# Altium schematic symbol library Regulator_Switching.SchLib: 1279 symbols (part 10 of 14)
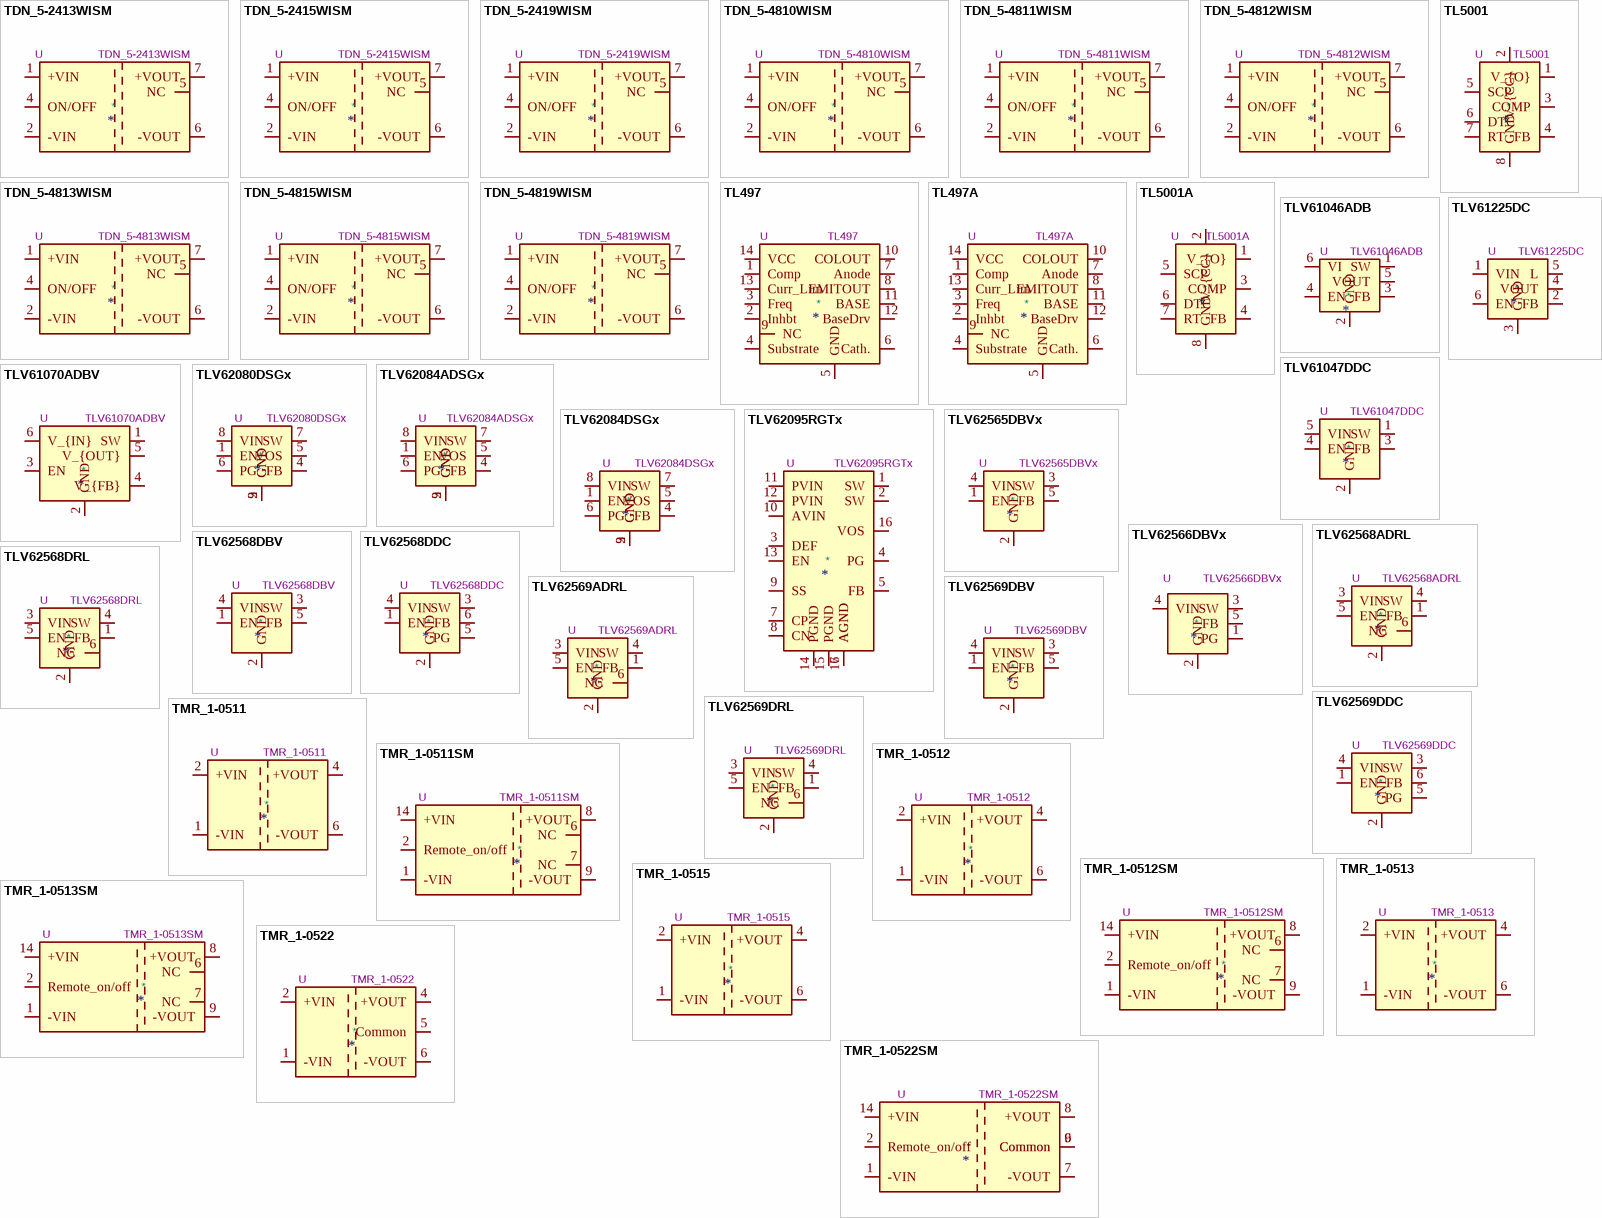
[diagram p41: symbols TDN_5-2413WISM to TMR_1-0522SM]

## TLV62084DSGx
designator *  value TLV62084DSGx  Reference: U
High-efficiency Step-down Converter; ki_keywords: Synchronous Buck; ki_fp_filters: *WSON?8?1EP*2x2mm*P0.5mm*; Footprint: Package_SON:WSON-8-1EP_2x2mm_P0.5mm_EP0.9x1.6mm; Datasheet: http://www.ti.com/lit/ds/symlink/tlv62080.pdf; Description_: High-efficiency Step-down Converter
pins: 1 EN, 2 GND, 3 GND, 4 FB, 5 VOS, 6 PG, 7 SW, 8 VIN, 9 GND

## TLV62095RGTx
designator *  value TLV62095RGTx  Reference: U
High efficiency step-down converter; ki_keywords: Synchronous Buck; ki_fp_filters: VQFN*1EP*3x3mm*P0.5mm*; Footprint: Package_DFN_QFN:VQFN-16-1EP_3x3mm_P0.5mm_EP1.68x1.68mm_ThermalVias; Datasheet: http://www.ti.com/lit/ds/symlink/tlv62095.pdf; Description_: High efficiency step-down converter
pins: 1 SW, 2 SW, 3 DEF, 4 PG, 5 FB, 6 AGND, 7 CP, 8 CN, 9 SS, 10 AVIN, 11 PVIN, 12 PVIN, 13 EN, 14 PGND, 15 PGND, 16 VOS, 17 AGND

## TLV62565DBVx
designator *  value TLV62565DBVx  Reference: U
2.7-V to 5.5-V input, EN Input, 1.5-A  step-down converter, SOT-23-5; ki_keywords: high efficiency; ki_fp_filters: SOT?23*; Footprint: Package_TO_SOT_SMD:SOT-23-5; Datasheet: https://www.ti.com/lit/ds/symlink/tlv62565.pdf; Description_: 2.7-V to 5.5-V input, EN Input, 1.5-A  step-down converter, SOT-23-5
pins: 1 EN, 2 GND, 3 SW, 4 VIN, 5 FB

## TLV62566DBVx
designator *  value TLV62566DBVx  Reference: U
2.7-V to 5.5-V input, PG Output, 1.5-A high efficiency step-down converter, SOT-23-5; ki_fp_filters: SOT?23*; Footprint: Package_TO_SOT_SMD:SOT-23-5; Datasheet: https://www.ti.com/lit/ds/symlink/tlv62565.pdf; Description_: 2.7-V to 5.5-V input, PG Output, 1.5-A high efficiency step-down converter, SOT-23-5; ki_keywords: step-down converter
pins: 1 PG, 2 GND, 3 SW, 4 VIN, 5 FB

## TLV62568ADRL
designator *  value TLV62568ADRL  Reference: U
High Efficiency Synchronous Buck Converter with forced PWM, Adjustable Output 0.6V-5.5V, 1A, SOT-563-6; ki_keywords: Step-Down Buck DC-DC Regulator Adjustable; ki_fp_filters: SOT*563*; Footprint: Package_TO_SOT_SMD:SOT-563; Datasheet: https://www.ti.com/lit/gpn/tlv62568a; Description_: High Efficiency Synchronous Buck Converter with forced PWM, Adjustable Output 0.6V-5.5V, 1A, SOT-563-6
pins: 1 FB, 2 GND, 3 VIN, 4 SW, 5 EN, 6 NC

## TLV62568DBV
designator *  value TLV62568DBV  Reference: U
High Efficiency Synchronous Buck Converter, Adjustable Output 0.6V-5.5V, 1A, SOT-23-5; ki_keywords: Step-Down Buck DC-DC Regulator Adjustable; ki_fp_filters: SOT?23*; Footprint: Package_TO_SOT_SMD:SOT-23-5; Datasheet: http://www.ti.com/lit/ds/symlink/tlv62568.pdf; Description_: High Efficiency Synchronous Buck Converter, Adjustable Output 0.6V-5.5V, 1A, SOT-23-5
pins: 1 EN, 2 GND, 3 SW, 4 VIN, 5 FB

## TLV62568DDC
designator *  value TLV62568DDC  Reference: U
High Efficiency Synchronous Buck Converter, Adjustable Output 0.6V-5.5V, 1A, SOT-23-6; ki_keywords: Step-Down Buck DC-DC Regulator Adjustable; ki_fp_filters: SOT?23*; Footprint: Package_TO_SOT_SMD:SOT-23-6; Datasheet: http://www.ti.com/lit/ds/symlink/tlv62568.pdf; Description_: High Efficiency Synchronous Buck Converter, Adjustable Output 0.6V-5.5V, 1A, SOT-23-6
pins: 1 EN, 2 GND, 3 SW, 4 VIN, 5 PG, 6 FB

## TLV62568DRL
designator *  value TLV62568DRL  Reference: U
High Efficiency Synchronous Buck Converter, Adjustable Output 0.6V-5.5V, 1A, SOT-563-6; ki_keywords: Step-Down Buck DC-DC Regulator Adjustable; ki_fp_filters: SOT*563*; Footprint: Package_TO_SOT_SMD:SOT-563; Datasheet: http://www.ti.com/lit/ds/symlink/tlv62568.pdf; Description_: High Efficiency Synchronous Buck Converter, Adjustable Output 0.6V-5.5V, 1A, SOT-563-6
pins: 1 FB, 2 GND, 3 VIN, 4 SW, 5 EN, 6 NC

## TLV62569ADRL
designator *  value TLV62569ADRL  Reference: U
High Efficiency Synchronous Buck Converter with forced PWM, Adjustable Output 0.6V-5.5V, 2A, SOT-563-6; ki_keywords: Step-Down Buck DC-DC Regulator Adjustable; ki_fp_filters: SOT*563*; Footprint: Package_TO_SOT_SMD:SOT-563; Datasheet: https://www.ti.com/lit/gpn/tlv62569a; Description_: High Efficiency Synchronous Buck Converter with forced PWM, Adjustable Output 0.6V-5.5V, 2A, SOT-563-6
pins: 1 FB, 2 GND, 3 VIN, 4 SW, 5 EN, 6 NC

## TLV62569DBV
designator *  value TLV62569DBV  Reference: U
High Efficiency Synchronous Buck Converter, Adjustable Output 0.6V-5.5V, 2A, SOT-23-5; ki_keywords: Step-Down Buck DC-DC Regulator Adjustable; ki_fp_filters: SOT?23*; Footprint: Package_TO_SOT_SMD:SOT-23-5; Datasheet: http://www.ti.com/lit/ds/symlink/tlv62569.pdf; Description_: High Efficiency Synchronous Buck Converter, Adjustable Output 0.6V-5.5V, 2A, SOT-23-5
pins: 1 EN, 2 GND, 3 SW, 4 VIN, 5 FB

## TLV62569DDC
designator *  value TLV62569DDC  Reference: U
High Efficiency Synchronous Buck Converter, Adjustable Output 0.6V-5.5V, 2A, SOT-23-6; ki_keywords: Step-Down Buck DC-DC Regulator Adjustable; ki_fp_filters: SOT?23*; Footprint: Package_TO_SOT_SMD:SOT-23-6; Datasheet: http://www.ti.com/lit/ds/symlink/tlv62569.pdf; Description_: High Efficiency Synchronous Buck Converter, Adjustable Output 0.6V-5.5V, 2A, SOT-23-6
pins: 1 EN, 2 GND, 3 SW, 4 VIN, 5 PG, 6 FB

## TLV62569DRL
designator *  value TLV62569DRL  Reference: U
High Efficiency Synchronous Buck Converter, Adjustable Output 0.6V-5.5V, 2A, SOT-563-6; ki_keywords: Step-Down Buck DC-DC Regulator Adjustable; ki_fp_filters: SOT*563*; Footprint: Package_TO_SOT_SMD:SOT-563; Datasheet: http://www.ti.com/lit/ds/symlink/tlv62569.pdf; Description_: High Efficiency Synchronous Buck Converter, Adjustable Output 0.6V-5.5V, 2A, SOT-563-6
pins: 1 FB, 2 GND, 3 VIN, 4 SW, 5 EN, 6 NC

## TMR_1-0511
designator *  value TMR_1-0511  Reference: U
200mA Regulated 1W DC/DC converter with 1.5kV isolation, 4.5V-9V input, 5V fixed Output Voltage, SIP-6; ki_keywords: Murata isolated isolation dc-dc converter transformer; ki_fp_filters: Converter*DCDC*TRACO*TMR?1*Single*; Footprint: Converter_DCDC:Converter_DCDC_TRACO_TMR-1-xxxx_Single_THT; Datasheet: http://assets.tracopower.com/TMR1/documents/tmr1-datasheet.pdf; Description_: 200mA Regulated 1W DC/DC converter with 1.5kV isolation, 4.5V-9V input, 5V fixed Output Voltage, SIP-6
pins: 1 -VIN, 2 +VIN, 4 +VOUT, 6 -VOUT

## TMR_1-0511SM
designator *  value TMR_1-0511SM  Reference: U
200mA Regulated 1W DC/DC converter with 1.5kV isolation, 4.5V-9V input, 5V fixed Output Voltage, SMD; ki_keywords: Murata isolated isolation dc-dc converter transformer; ki_fp_filters: Converter*DCDC*TRACO*TMR?1SM*; Footprint: Converter_DCDC:Converter_DCDC_TRACO_TMR-1SM_SMD; Datasheet: http://assets.tracopower.com/TMR1SM/documents/tmr1sm-datasheet.pdf; Description_: 200mA Regulated 1W DC/DC converter with 1.5kV isolation, 4.5V-9V input, 5V fixed Output Voltage, SMD
pins: 1 -VIN, 2 Remote_on/off, 6 NC, 7 NC, 8 +VOUT, 9 -VOUT, 14 +VIN

## TMR_1-0512
designator *  value TMR_1-0512  Reference: U
83mA Regulated 1W DC/DC converter with 1.5kV isolation, 4.5V-9V input, 12V fixed Output Voltage, SIP-6; ki_keywords: Murata isolated isolation dc-dc converter transformer; ki_fp_filters: Converter*DCDC*TRACO*TMR?1*Single*; Footprint: Converter_DCDC:Converter_DCDC_TRACO_TMR-1-xxxx_Single_THT; Datasheet: http://assets.tracopower.com/TMR1/documents/tmr1-datasheet.pdf; Description_: 83mA Regulated 1W DC/DC converter with 1.5kV isolation, 4.5V-9V input, 12V fixed Output Voltage, SIP-6
pins: 1 -VIN, 2 +VIN, 4 +VOUT, 6 -VOUT

## TMR_1-0512SM
designator *  value TMR_1-0512SM  Reference: U
83mA Regulated 1W DC/DC converter with 1.5kV isolation, 4.5V-9V input, 12V fixed Output Voltage, SMD; ki_keywords: Murata isolated isolation dc-dc converter transformer; ki_fp_filters: Converter*DCDC*TRACO*TMR?1SM*; Footprint: Converter_DCDC:Converter_DCDC_TRACO_TMR-1SM_SMD; Datasheet: http://assets.tracopower.com/TMR1SM/documents/tmr1sm-datasheet.pdf; Description_: 83mA Regulated 1W DC/DC converter with 1.5kV isolation, 4.5V-9V input, 12V fixed Output Voltage, SMD
pins: 1 -VIN, 2 Remote_on/off, 6 NC, 7 NC, 8 +VOUT, 9 -VOUT, 14 +VIN

## TMR_1-0513
designator *  value TMR_1-0513  Reference: U
67mA Regulated 1W DC/DC converter with 1.5kV isolation, 4.5V-9V input, 15V fixed Output Voltage, SIP-6; ki_keywords: Murata isolated isolation dc-dc converter transformer; ki_fp_filters: Converter*DCDC*TRACO*TMR?1*Single*; Footprint: Converter_DCDC:Converter_DCDC_TRACO_TMR-1-xxxx_Single_THT; Datasheet: http://assets.tracopower.com/TMR1/documents/tmr1-datasheet.pdf; Description_: 67mA Regulated 1W DC/DC converter with 1.5kV isolation, 4.5V-9V input, 15V fixed Output Voltage, SIP-6
pins: 1 -VIN, 2 +VIN, 4 +VOUT, 6 -VOUT

## TMR_1-0513SM
designator *  value TMR_1-0513SM  Reference: U
67mA Regulated 1W DC/DC converter with 1.5kV isolation, 4.5V-9V input, 15V fixed Output Voltage, SMD; ki_keywords: Murata isolated isolation dc-dc converter transformer; ki_fp_filters: Converter*DCDC*TRACO*TMR?1SM*; Footprint: Converter_DCDC:Converter_DCDC_TRACO_TMR-1SM_SMD; Datasheet: http://assets.tracopower.com/TMR1SM/documents/tmr1sm-datasheet.pdf; Description_: 67mA Regulated 1W DC/DC converter with 1.5kV isolation, 4.5V-9V input, 15V fixed Output Voltage, SMD
pins: 1 -VIN, 2 Remote_on/off, 6 NC, 7 NC, 8 +VOUT, 9 -VOUT, 14 +VIN

## TMR_1-0515
designator *  value TMR_1-0515  Reference: U
42mA Regulated 1W DC/DC converter with 1.5kV isolation, 4.5V-9V input, 24V fixed Output Voltage, SIP-6; ki_keywords: Murata isolated isolation dc-dc converter transformer; ki_fp_filters: Converter*DCDC*TRACO*TMR?1*Single*; Footprint: Converter_DCDC:Converter_DCDC_TRACO_TMR-1-xxxx_Single_THT; Datasheet: http://assets.tracopower.com/TMR1/documents/tmr1-datasheet.pdf; Description_: 42mA Regulated 1W DC/DC converter with 1.5kV isolation, 4.5V-9V input, 24V fixed Output Voltage, SIP-6
pins: 1 -VIN, 2 +VIN, 4 +VOUT, 6 -VOUT

## TMR_1-0522
designator *  value TMR_1-0522  Reference: U
±42mA Regulated 1W DC/DC converter with 1.5kV isolation, 4.5V-9V input, ±12V fixed Output Voltage, SIP-6; ki_keywords: Murata isolated isolation dc-dc converter transformer; ki_fp_filters: Converter*DCDC*TRACO*TMR?1*Dual*; Footprint: Converter_DCDC:Converter_DCDC_TRACO_TMR-1-xxxx_Dual_THT; Datasheet: http://assets.tracopower.com/TMR1/documents/tmr1-datasheet.pdf; Description_: ±42mA Regulated 1W DC/DC converter with 1.5kV isolation, 4.5V-9V input, ±12V fixed Output Voltage, SIP-6
pins: 1 -VIN, 2 +VIN, 4 +VOUT, 5 Common, 6 -VOUT

## TMR_1-0522SM
designator *  value TMR_1-0522SM  Reference: U
±42mA Regulated 1W DC/DC converter with 1.5kV isolation, 4.5V-9V input, ±12V fixed Output Voltage, SMD; ki_keywords: Murata isolated isolation dc-dc converter transformer; ki_fp_filters: Converter*DCDC*TRACO*TMR-1SM*SMD*; Footprint: Converter_DCDC:Converter_DCDC_TRACO_TMR-1SM_SMD; Datasheet: http://assets.tracopower.com/TMR1SM/documents/tmr1sm-datasheet.pdf; Description_: ±42mA Regulated 1W DC/DC converter with 1.5kV isolation, 4.5V-9V input, ±12V fixed Output Voltage, SMD
pins: 1 -VIN, 2 Remote_on/off, 6 Common, 7 -VOUT, 8 +VOUT, 9 Common, 14 +VIN

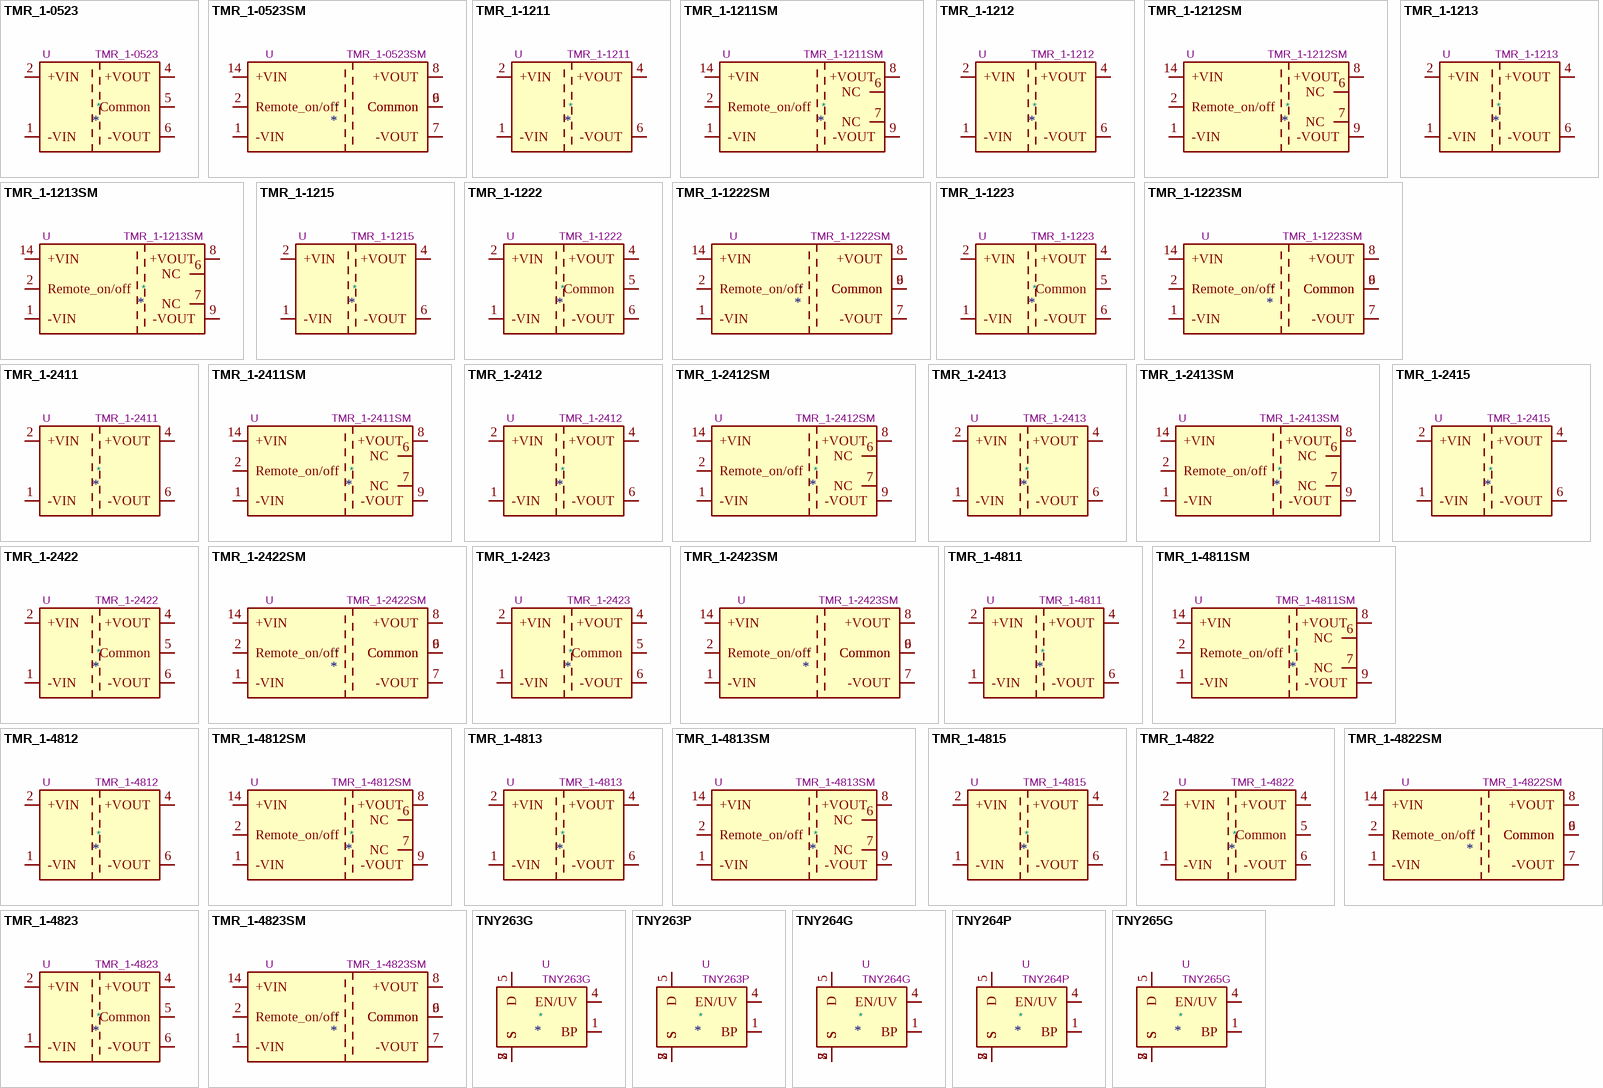
[diagram p22: symbols TMR_1-0523 to TNY265G]

## TMR_1-0523
designator *  value TMR_1-0523  Reference: U
±33mA Regulated 1W DC/DC converter with 1.5kV isolation, 4.5V-9V input, ±15V fixed Output Voltage, SIP-6; ki_keywords: Murata isolated isolation dc-dc converter transformer; ki_fp_filters: Converter*DCDC*TRACO*TMR?1*Dual*; Footprint: Converter_DCDC:Converter_DCDC_TRACO_TMR-1-xxxx_Dual_THT; Datasheet: http://assets.tracopower.com/TMR1/documents/tmr1-datasheet.pdf; Description_: ±33mA Regulated 1W DC/DC converter with 1.5kV isolation, 4.5V-9V input, ±15V fixed Output Voltage, SIP-6
pins: 1 -VIN, 2 +VIN, 4 +VOUT, 5 Common, 6 -VOUT

## TMR_1-0523SM
designator *  value TMR_1-0523SM  Reference: U
±33mA Regulated 1W DC/DC converter with 1.5kV isolation, 4.5V-9V input, ±15V fixed Output Voltage, SMD; ki_keywords: Murata isolated isolation dc-dc converter transformer; ki_fp_filters: Converter*DCDC*TRACO*TMR-1SM*SMD*; Footprint: Converter_DCDC:Converter_DCDC_TRACO_TMR-1SM_SMD; Datasheet: http://assets.tracopower.com/TMR1SM/documents/tmr1sm-datasheet.pdf; Description_: ±33mA Regulated 1W DC/DC converter with 1.5kV isolation, 4.5V-9V input, ±15V fixed Output Voltage, SMD
pins: 1 -VIN, 2 Remote_on/off, 6 Common, 7 -VOUT, 8 +VOUT, 9 Common, 14 +VIN

## TMR_1-1211
designator *  value TMR_1-1211  Reference: U
200mA Regulated 1W DC/DC converter with 1.5kV isolation, 9V-18V input, 5V fixed Output Voltage, SIP-6; ki_keywords: Murata isolated isolation dc-dc converter transformer; ki_fp_filters: Converter*DCDC*TRACO*TMR?1*Single*; Footprint: Converter_DCDC:Converter_DCDC_TRACO_TMR-1-xxxx_Single_THT; Datasheet: http://assets.tracopower.com/TMR1/documents/tmr1-datasheet.pdf; Description_: 200mA Regulated 1W DC/DC converter with 1.5kV isolation, 9V-18V input, 5V fixed Output Voltage, SIP-6
pins: 1 -VIN, 2 +VIN, 4 +VOUT, 6 -VOUT

## TMR_1-1211SM
designator *  value TMR_1-1211SM  Reference: U
200mA Regulated 1W DC/DC converter with 1.5kV isolation, 9V-18V input, 5V fixed Output Voltage, SMD; ki_keywords: Murata isolated isolation dc-dc converter transformer; ki_fp_filters: Converter*DCDC*TRACO*TMR?1SM*; Footprint: Converter_DCDC:Converter_DCDC_TRACO_TMR-1SM_SMD; Datasheet: http://assets.tracopower.com/TMR1SM/documents/tmr1sm-datasheet.pdf; Description_: 200mA Regulated 1W DC/DC converter with 1.5kV isolation, 9V-18V input, 5V fixed Output Voltage, SMD
pins: 1 -VIN, 2 Remote_on/off, 6 NC, 7 NC, 8 +VOUT, 9 -VOUT, 14 +VIN

## TMR_1-1212
designator *  value TMR_1-1212  Reference: U
83mA Regulated 1W DC/DC converter with 1.5kV isolation, 9V-18V input, 12V fixed Output Voltage, SIP-6; ki_keywords: Murata isolated isolation dc-dc converter transformer; ki_fp_filters: Converter*DCDC*TRACO*TMR?1*Single*; Footprint: Converter_DCDC:Converter_DCDC_TRACO_TMR-1-xxxx_Single_THT; Datasheet: http://assets.tracopower.com/TMR1/documents/tmr1-datasheet.pdf; Description_: 83mA Regulated 1W DC/DC converter with 1.5kV isolation, 9V-18V input, 12V fixed Output Voltage, SIP-6
pins: 1 -VIN, 2 +VIN, 4 +VOUT, 6 -VOUT

## TMR_1-1212SM
designator *  value TMR_1-1212SM  Reference: U
83mA Regulated 1W DC/DC converter with 1.5kV isolation, 9V-18V input, 12V fixed Output Voltage, SMD; ki_keywords: Murata isolated isolation dc-dc converter transformer; ki_fp_filters: Converter*DCDC*TRACO*TMR?1SM*; Footprint: Converter_DCDC:Converter_DCDC_TRACO_TMR-1SM_SMD; Datasheet: http://assets.tracopower.com/TMR1SM/documents/tmr1sm-datasheet.pdf; Description_: 83mA Regulated 1W DC/DC converter with 1.5kV isolation, 9V-18V input, 12V fixed Output Voltage, SMD
pins: 1 -VIN, 2 Remote_on/off, 6 NC, 7 NC, 8 +VOUT, 9 -VOUT, 14 +VIN

## TMR_1-1213
designator *  value TMR_1-1213  Reference: U
67mA Regulated 1W DC/DC converter with 1.5kV isolation, 9V-18V input, 15V fixed Output Voltage, SIP-6; ki_keywords: Murata isolated isolation dc-dc converter transformer; ki_fp_filters: Converter*DCDC*TRACO*TMR?1*Single*; Footprint: Converter_DCDC:Converter_DCDC_TRACO_TMR-1-xxxx_Single_THT; Datasheet: http://assets.tracopower.com/TMR1/documents/tmr1-datasheet.pdf; Description_: 67mA Regulated 1W DC/DC converter with 1.5kV isolation, 9V-18V input, 15V fixed Output Voltage, SIP-6
pins: 1 -VIN, 2 +VIN, 4 +VOUT, 6 -VOUT

## TMR_1-1213SM
designator *  value TMR_1-1213SM  Reference: U
67mA Regulated 1W DC/DC converter with 1.5kV isolation, 9V-18V input, 15V fixed Output Voltage, SMD; ki_keywords: Murata isolated isolation dc-dc converter transformer; ki_fp_filters: Converter*DCDC*TRACO*TMR?1SM*; Footprint: Converter_DCDC:Converter_DCDC_TRACO_TMR-1SM_SMD; Datasheet: http://assets.tracopower.com/TMR1SM/documents/tmr1sm-datasheet.pdf; Description_: 67mA Regulated 1W DC/DC converter with 1.5kV isolation, 9V-18V input, 15V fixed Output Voltage, SMD
pins: 1 -VIN, 2 Remote_on/off, 6 NC, 7 NC, 8 +VOUT, 9 -VOUT, 14 +VIN

## TMR_1-1215
designator *  value TMR_1-1215  Reference: U
42mA Regulated 1W DC/DC converter with 1.5kV isolation, 9V-18V input, 24V fixed Output Voltage, SIP-6; ki_keywords: Murata isolated isolation dc-dc converter transformer; ki_fp_filters: Converter*DCDC*TRACO*TMR?1*Single*; Footprint: Converter_DCDC:Converter_DCDC_TRACO_TMR-1-xxxx_Single_THT; Datasheet: http://assets.tracopower.com/TMR1/documents/tmr1-datasheet.pdf; Description_: 42mA Regulated 1W DC/DC converter with 1.5kV isolation, 9V-18V input, 24V fixed Output Voltage, SIP-6
pins: 1 -VIN, 2 +VIN, 4 +VOUT, 6 -VOUT

## TMR_1-1222
designator *  value TMR_1-1222  Reference: U
±42mA Regulated 1W DC/DC converter with 1.5kV isolation, 9V-18V input, ±12V fixed Output Voltage, SIP-6; ki_keywords: Murata isolated isolation dc-dc converter transformer; ki_fp_filters: Converter*DCDC*TRACO*TMR?1*Dual*; Footprint: Converter_DCDC:Converter_DCDC_TRACO_TMR-1-xxxx_Dual_THT; Datasheet: http://assets.tracopower.com/TMR1/documents/tmr1-datasheet.pdf; Description_: ±42mA Regulated 1W DC/DC converter with 1.5kV isolation, 9V-18V input, ±12V fixed Output Voltage, SIP-6
pins: 1 -VIN, 2 +VIN, 4 +VOUT, 5 Common, 6 -VOUT

## TMR_1-1222SM
designator *  value TMR_1-1222SM  Reference: U
±42mA Regulated 1W DC/DC converter with 1.5kV isolation, 9V-18V input, ±12V fixed Output Voltage, SMD; ki_keywords: Murata isolated isolation dc-dc converter transformer; ki_fp_filters: Converter*DCDC*TRACO*TMR-1SM*SMD*; Footprint: Converter_DCDC:Converter_DCDC_TRACO_TMR-1SM_SMD; Datasheet: http://assets.tracopower.com/TMR1SM/documents/tmr1sm-datasheet.pdf; Description_: ±42mA Regulated 1W DC/DC converter with 1.5kV isolation, 9V-18V input, ±12V fixed Output Voltage, SMD
pins: 1 -VIN, 2 Remote_on/off, 6 Common, 7 -VOUT, 8 +VOUT, 9 Common, 14 +VIN

## TMR_1-1223
designator *  value TMR_1-1223  Reference: U
±33mA Regulated 1W DC/DC converter with 1.5kV isolation, 9V-18V input, ±15V fixed Output Voltage, SIP-6; ki_keywords: Murata isolated isolation dc-dc converter transformer; ki_fp_filters: Converter*DCDC*TRACO*TMR?1*Dual*; Footprint: Converter_DCDC:Converter_DCDC_TRACO_TMR-1-xxxx_Dual_THT; Datasheet: http://assets.tracopower.com/TMR1/documents/tmr1-datasheet.pdf; Description_: ±33mA Regulated 1W DC/DC converter with 1.5kV isolation, 9V-18V input, ±15V fixed Output Voltage, SIP-6
pins: 1 -VIN, 2 +VIN, 4 +VOUT, 5 Common, 6 -VOUT

## TMR_1-1223SM
designator *  value TMR_1-1223SM  Reference: U
±33mA Regulated 1W DC/DC converter with 1.5kV isolation, 9V-18V input, ±15V fixed Output Voltage, SMD; ki_keywords: Murata isolated isolation dc-dc converter transformer; ki_fp_filters: Converter*DCDC*TRACO*TMR-1SM*SMD*; Footprint: Converter_DCDC:Converter_DCDC_TRACO_TMR-1SM_SMD; Datasheet: http://assets.tracopower.com/TMR1SM/documents/tmr1sm-datasheet.pdf; Description_: ±33mA Regulated 1W DC/DC converter with 1.5kV isolation, 9V-18V input, ±15V fixed Output Voltage, SMD
pins: 1 -VIN, 2 Remote_on/off, 6 Common, 7 -VOUT, 8 +VOUT, 9 Common, 14 +VIN

## TMR_1-2411
designator *  value TMR_1-2411  Reference: U
200mA Regulated 1W DC/DC converter with 1.5kV isolation, 18V-36V input, 5V fixed Output Voltage, SIP-6; ki_keywords: Murata isolated isolation dc-dc converter transformer; ki_fp_filters: Converter*DCDC*TRACO*TMR?1*Single*; Footprint: Converter_DCDC:Converter_DCDC_TRACO_TMR-1-xxxx_Single_THT; Datasheet: http://assets.tracopower.com/TMR1/documents/tmr1-datasheet.pdf; Description_: 200mA Regulated 1W DC/DC converter with 1.5kV isolation, 18V-36V input, 5V fixed Output Voltage, SIP-6
pins: 1 -VIN, 2 +VIN, 4 +VOUT, 6 -VOUT

## TMR_1-2411SM
designator *  value TMR_1-2411SM  Reference: U
200mA Regulated 1W DC/DC converter with 1.5kV isolation, 18V-36V input, 5V fixed Output Voltage, SMD; ki_keywords: Murata isolated isolation dc-dc converter transformer; ki_fp_filters: Converter*DCDC*TRACO*TMR?1SM*; Footprint: Converter_DCDC:Converter_DCDC_TRACO_TMR-1SM_SMD; Datasheet: http://assets.tracopower.com/TMR1SM/documents/tmr1sm-datasheet.pdf; Description_: 200mA Regulated 1W DC/DC converter with 1.5kV isolation, 18V-36V input, 5V fixed Output Voltage, SMD
pins: 1 -VIN, 2 Remote_on/off, 6 NC, 7 NC, 8 +VOUT, 9 -VOUT, 14 +VIN

## TMR_1-2412
designator *  value TMR_1-2412  Reference: U
83mA Regulated 1W DC/DC converter with 1.5kV isolation, 18V-36V input, 12V fixed Output Voltage, SIP-6; ki_keywords: Murata isolated isolation dc-dc converter transformer; ki_fp_filters: Converter*DCDC*TRACO*TMR?1*Single*; Footprint: Converter_DCDC:Converter_DCDC_TRACO_TMR-1-xxxx_Single_THT; Datasheet: http://assets.tracopower.com/TMR1/documents/tmr1-datasheet.pdf; Description_: 83mA Regulated 1W DC/DC converter with 1.5kV isolation, 18V-36V input, 12V fixed Output Voltage, SIP-6
pins: 1 -VIN, 2 +VIN, 4 +VOUT, 6 -VOUT

## TMR_1-2412SM
designator *  value TMR_1-2412SM  Reference: U
83mA Regulated 1W DC/DC converter with 1.5kV isolation, 18V-36V input, 12V fixed Output Voltage, SMD; ki_keywords: Murata isolated isolation dc-dc converter transformer; ki_fp_filters: Converter*DCDC*TRACO*TMR?1SM*; Footprint: Converter_DCDC:Converter_DCDC_TRACO_TMR-1SM_SMD; Datasheet: http://assets.tracopower.com/TMR1SM/documents/tmr1sm-datasheet.pdf; Description_: 83mA Regulated 1W DC/DC converter with 1.5kV isolation, 18V-36V input, 12V fixed Output Voltage, SMD
pins: 1 -VIN, 2 Remote_on/off, 6 NC, 7 NC, 8 +VOUT, 9 -VOUT, 14 +VIN

## TMR_1-2413
designator *  value TMR_1-2413  Reference: U
67mA Regulated 1W DC/DC converter with 1.5kV isolation, 18V-36V input, 15V fixed Output Voltage, SIP-6; ki_keywords: Murata isolated isolation dc-dc converter transformer; ki_fp_filters: Converter*DCDC*TRACO*TMR?1*Single*; Footprint: Converter_DCDC:Converter_DCDC_TRACO_TMR-1-xxxx_Single_THT; Datasheet: http://assets.tracopower.com/TMR1/documents/tmr1-datasheet.pdf; Description_: 67mA Regulated 1W DC/DC converter with 1.5kV isolation, 18V-36V input, 15V fixed Output Voltage, SIP-6
pins: 1 -VIN, 2 +VIN, 4 +VOUT, 6 -VOUT

## TMR_1-2413SM
designator *  value TMR_1-2413SM  Reference: U
67mA Regulated 1W DC/DC converter with 1.5kV isolation, 18V-36V input, 15V fixed Output Voltage, SMD; ki_keywords: Murata isolated isolation dc-dc converter transformer; ki_fp_filters: Converter*DCDC*TRACO*TMR?1SM*; Footprint: Converter_DCDC:Converter_DCDC_TRACO_TMR-1SM_SMD; Datasheet: http://assets.tracopower.com/TMR1SM/documents/tmr1sm-datasheet.pdf; Description_: 67mA Regulated 1W DC/DC converter with 1.5kV isolation, 18V-36V input, 15V fixed Output Voltage, SMD
pins: 1 -VIN, 2 Remote_on/off, 6 NC, 7 NC, 8 +VOUT, 9 -VOUT, 14 +VIN

## TMR_1-2415
designator *  value TMR_1-2415  Reference: U
42mA Regulated 1W DC/DC converter with 1.5kV isolation, 18V-36V input, 24V fixed Output Voltage, SIP-6; ki_keywords: Murata isolated isolation dc-dc converter transformer; ki_fp_filters: Converter*DCDC*TRACO*TMR?1*Single*; Footprint: Converter_DCDC:Converter_DCDC_TRACO_TMR-1-xxxx_Single_THT; Datasheet: http://assets.tracopower.com/TMR1/documents/tmr1-datasheet.pdf; Description_: 42mA Regulated 1W DC/DC converter with 1.5kV isolation, 18V-36V input, 24V fixed Output Voltage, SIP-6
pins: 1 -VIN, 2 +VIN, 4 +VOUT, 6 -VOUT

## TMR_1-2422
designator *  value TMR_1-2422  Reference: U
±42mA Regulated 1W DC/DC converter with 1.5kV isolation, 18V-36V input, ±12V fixed Output Voltage, SIP-6; ki_keywords: Murata isolated isolation dc-dc converter transformer; ki_fp_filters: Converter*DCDC*TRACO*TMR?1*Dual*; Footprint: Converter_DCDC:Converter_DCDC_TRACO_TMR-1-xxxx_Dual_THT; Datasheet: http://assets.tracopower.com/TMR1/documents/tmr1-datasheet.pdf; Description_: ±42mA Regulated 1W DC/DC converter with 1.5kV isolation, 18V-36V input, ±12V fixed Output Voltage, SIP-6
pins: 1 -VIN, 2 +VIN, 4 +VOUT, 5 Common, 6 -VOUT

## TMR_1-2422SM
designator *  value TMR_1-2422SM  Reference: U
±42mA Regulated 1W DC/DC converter with 1.5kV isolation, 18V-36V input, ±12V fixed Output Voltage, SMD; ki_keywords: Murata isolated isolation dc-dc converter transformer; ki_fp_filters: Converter*DCDC*TRACO*TMR-1SM*SMD*; Footprint: Converter_DCDC:Converter_DCDC_TRACO_TMR-1SM_SMD; Datasheet: http://assets.tracopower.com/TMR1SM/documents/tmr1sm-datasheet.pdf; Description_: ±42mA Regulated 1W DC/DC converter with 1.5kV isolation, 18V-36V input, ±12V fixed Output Voltage, SMD
pins: 1 -VIN, 2 Remote_on/off, 6 Common, 7 -VOUT, 8 +VOUT, 9 Common, 14 +VIN

## TMR_1-2423
designator *  value TMR_1-2423  Reference: U
±33mA Regulated 1W DC/DC converter with 1.5kV isolation, 18V-36V input, ±15V fixed Output Voltage, SIP-6; ki_keywords: Murata isolated isolation dc-dc converter transformer; ki_fp_filters: Converter*DCDC*TRACO*TMR?1*Dual*; Footprint: Converter_DCDC:Converter_DCDC_TRACO_TMR-1-xxxx_Dual_THT; Datasheet: http://assets.tracopower.com/TMR1/documents/tmr1-datasheet.pdf; Description_: ±33mA Regulated 1W DC/DC converter with 1.5kV isolation, 18V-36V input, ±15V fixed Output Voltage, SIP-6
pins: 1 -VIN, 2 +VIN, 4 +VOUT, 5 Common, 6 -VOUT

## TMR_1-2423SM
designator *  value TMR_1-2423SM  Reference: U
±33mA Regulated 1W DC/DC converter with 1.5kV isolation, 18V-36V input, ±15V fixed Output Voltage, SMD; ki_keywords: Murata isolated isolation dc-dc converter transformer; ki_fp_filters: Converter*DCDC*TRACO*TMR-1SM*SMD*; Footprint: Converter_DCDC:Converter_DCDC_TRACO_TMR-1SM_SMD; Datasheet: http://assets.tracopower.com/TMR1SM/documents/tmr1sm-datasheet.pdf; Description_: ±33mA Regulated 1W DC/DC converter with 1.5kV isolation, 18V-36V input, ±15V fixed Output Voltage, SMD
pins: 1 -VIN, 2 Remote_on/off, 6 Common, 7 -VOUT, 8 +VOUT, 9 Common, 14 +VIN

## TMR_1-4811
designator *  value TMR_1-4811  Reference: U
200mA Regulated 1W DC/DC converter with 1.5kV isolation, 36V-75V input, 5V fixed Output Voltage, SIP-6; ki_keywords: Murata isolated isolation dc-dc converter transformer; ki_fp_filters: Converter*DCDC*TRACO*TMR?1*Single*; Footprint: Converter_DCDC:Converter_DCDC_TRACO_TMR-1-xxxx_Single_THT; Datasheet: http://assets.tracopower.com/TMR1/documents/tmr1-datasheet.pdf; Description_: 200mA Regulated 1W DC/DC converter with 1.5kV isolation, 36V-75V input, 5V fixed Output Voltage, SIP-6
pins: 1 -VIN, 2 +VIN, 4 +VOUT, 6 -VOUT

## TMR_1-4811SM
designator *  value TMR_1-4811SM  Reference: U
200mA Regulated 1W DC/DC converter with 1.5kV isolation, 36V-75V input, 5V fixed Output Voltage, SMD; ki_keywords: Murata isolated isolation dc-dc converter transformer; ki_fp_filters: Converter*DCDC*TRACO*TMR?1SM*; Footprint: Converter_DCDC:Converter_DCDC_TRACO_TMR-1SM_SMD; Datasheet: http://assets.tracopower.com/TMR1SM/documents/tmr1sm-datasheet.pdf; Description_: 200mA Regulated 1W DC/DC converter with 1.5kV isolation, 36V-75V input, 5V fixed Output Voltage, SMD
pins: 1 -VIN, 2 Remote_on/off, 6 NC, 7 NC, 8 +VOUT, 9 -VOUT, 14 +VIN

## TMR_1-4812
designator *  value TMR_1-4812  Reference: U
83mA Regulated 1W DC/DC converter with 1.5kV isolation, 36V-75V input, 12V fixed Output Voltage, SIP-6; ki_keywords: Murata isolated isolation dc-dc converter transformer; ki_fp_filters: Converter*DCDC*TRACO*TMR?1*Single*; Footprint: Converter_DCDC:Converter_DCDC_TRACO_TMR-1-xxxx_Single_THT; Datasheet: http://assets.tracopower.com/TMR1/documents/tmr1-datasheet.pdf; Description_: 83mA Regulated 1W DC/DC converter with 1.5kV isolation, 36V-75V input, 12V fixed Output Voltage, SIP-6
pins: 1 -VIN, 2 +VIN, 4 +VOUT, 6 -VOUT

## TMR_1-4812SM
designator *  value TMR_1-4812SM  Reference: U
83mA Regulated 1W DC/DC converter with 1.5kV isolation, 36V-75V input, 12V fixed Output Voltage, SMD; ki_keywords: Murata isolated isolation dc-dc converter transformer; ki_fp_filters: Converter*DCDC*TRACO*TMR?1SM*; Footprint: Converter_DCDC:Converter_DCDC_TRACO_TMR-1SM_SMD; Datasheet: http://assets.tracopower.com/TMR1SM/documents/tmr1sm-datasheet.pdf; Description_: 83mA Regulated 1W DC/DC converter with 1.5kV isolation, 36V-75V input, 12V fixed Output Voltage, SMD
pins: 1 -VIN, 2 Remote_on/off, 6 NC, 7 NC, 8 +VOUT, 9 -VOUT, 14 +VIN

## TMR_1-4813
designator *  value TMR_1-4813  Reference: U
67mA Regulated 1W DC/DC converter with 1.5kV isolation, 36V-75V input, 15V fixed Output Voltage, SIP-6; ki_keywords: Murata isolated isolation dc-dc converter transformer; ki_fp_filters: Converter*DCDC*TRACO*TMR?1*Single*; Footprint: Converter_DCDC:Converter_DCDC_TRACO_TMR-1-xxxx_Single_THT; Datasheet: http://assets.tracopower.com/TMR1/documents/tmr1-datasheet.pdf; Description_: 67mA Regulated 1W DC/DC converter with 1.5kV isolation, 36V-75V input, 15V fixed Output Voltage, SIP-6
pins: 1 -VIN, 2 +VIN, 4 +VOUT, 6 -VOUT

## TMR_1-4813SM
designator *  value TMR_1-4813SM  Reference: U
67mA Regulated 1W DC/DC converter with 1.5kV isolation, 36V-75V input, 15V fixed Output Voltage, SMD; ki_keywords: Murata isolated isolation dc-dc converter transformer; ki_fp_filters: Converter*DCDC*TRACO*TMR?1SM*; Footprint: Converter_DCDC:Converter_DCDC_TRACO_TMR-1SM_SMD; Datasheet: http://assets.tracopower.com/TMR1SM/documents/tmr1sm-datasheet.pdf; Description_: 67mA Regulated 1W DC/DC converter with 1.5kV isolation, 36V-75V input, 15V fixed Output Voltage, SMD
pins: 1 -VIN, 2 Remote_on/off, 6 NC, 7 NC, 8 +VOUT, 9 -VOUT, 14 +VIN

## TMR_1-4815
designator *  value TMR_1-4815  Reference: U
42mA Regulated 1W DC/DC converter with 1.5kV isolation, 36V-75V input, 24V fixed Output Voltage, SIP-6; ki_keywords: Murata isolated isolation dc-dc converter transformer; ki_fp_filters: Converter*DCDC*TRACO*TMR?1*Single*; Footprint: Converter_DCDC:Converter_DCDC_TRACO_TMR-1-xxxx_Single_THT; Datasheet: http://assets.tracopower.com/TMR1/documents/tmr1-datasheet.pdf; Description_: 42mA Regulated 1W DC/DC converter with 1.5kV isolation, 36V-75V input, 24V fixed Output Voltage, SIP-6
pins: 1 -VIN, 2 +VIN, 4 +VOUT, 6 -VOUT

## TMR_1-4822
designator *  value TMR_1-4822  Reference: U
±42mA Regulated 1W DC/DC converter with 1.5kV isolation, 36V-75V input, ±12V fixed Output Voltage, SIP-6; ki_keywords: Murata isolated isolation dc-dc converter transformer; ki_fp_filters: Converter*DCDC*TRACO*TMR?1*Dual*; Footprint: Converter_DCDC:Converter_DCDC_TRACO_TMR-1-xxxx_Dual_THT; Datasheet: http://assets.tracopower.com/TMR1/documents/tmr1-datasheet.pdf; Description_: ±42mA Regulated 1W DC/DC converter with 1.5kV isolation, 36V-75V input, ±12V fixed Output Voltage, SIP-6
pins: 1 -VIN, 2 +VIN, 4 +VOUT, 5 Common, 6 -VOUT

## TMR_1-4822SM
designator *  value TMR_1-4822SM  Reference: U
±42mA Regulated 1W DC/DC converter with 1.5kV isolation, 36V-75V input, ±12V fixed Output Voltage, SMD; ki_keywords: Murata isolated isolation dc-dc converter transformer; ki_fp_filters: Converter*DCDC*TRACO*TMR-1SM*SMD*; Footprint: Converter_DCDC:Converter_DCDC_TRACO_TMR-1SM_SMD; Datasheet: http://assets.tracopower.com/TMR1SM/documents/tmr1sm-datasheet.pdf; Description_: ±42mA Regulated 1W DC/DC converter with 1.5kV isolation, 36V-75V input, ±12V fixed Output Voltage, SMD
pins: 1 -VIN, 2 Remote_on/off, 6 Common, 7 -VOUT, 8 +VOUT, 9 Common, 14 +VIN

## TMR_1-4823
designator *  value TMR_1-4823  Reference: U
±33mA Regulated 1W DC/DC converter with 1.5kV isolation, 36V-75V input, ±15V fixed Output Voltage, SIP-6; ki_keywords: Murata isolated isolation dc-dc converter transformer; ki_fp_filters: Converter*DCDC*TRACO*TMR?1*Dual*; Footprint: Converter_DCDC:Converter_DCDC_TRACO_TMR-1-xxxx_Dual_THT; Datasheet: http://assets.tracopower.com/TMR1/documents/tmr1-datasheet.pdf; Description_: ±33mA Regulated 1W DC/DC converter with 1.5kV isolation, 36V-75V input, ±15V fixed Output Voltage, SIP-6
pins: 1 -VIN, 2 +VIN, 4 +VOUT, 5 Common, 6 -VOUT

## TMR_1-4823SM
designator *  value TMR_1-4823SM  Reference: U
±33mA Regulated 1W DC/DC converter with 1.5kV isolation, 36V-75V input, ±15V fixed Output Voltage, SMD; ki_keywords: Murata isolated isolation dc-dc converter transformer; ki_fp_filters: Converter*DCDC*TRACO*TMR-1SM*SMD*; Footprint: Converter_DCDC:Converter_DCDC_TRACO_TMR-1SM_SMD; Datasheet: http://assets.tracopower.com/TMR1SM/documents/tmr1sm-datasheet.pdf; Description_: ±33mA Regulated 1W DC/DC converter with 1.5kV isolation, 36V-75V input, ±15V fixed Output Voltage, SMD
pins: 1 -VIN, 2 Remote_on/off, 6 Common, 7 -VOUT, 8 +VOUT, 9 Common, 14 +VIN

## TNY263G
designator *  value TNY263G  Reference: U
TinySwitch-II Family, 4.7W Output Power, SMD-8B; ki_keywords: Enhanced, Energy Efficient, Low Power Off-line Switcher; ki_fp_filters: PowerIntegrations?SMD?8B*; Footprint: Package_DIP:PowerIntegrations_SMD-8B; Datasheet: http://www.powerint.com/sites/default/files/product-docs/tny263_268.pdf; Description_: TinySwitch-II Family, 4.7W Output Power, SMD-8B
pins: 1 BP, 2 S, 3 S, 4 EN/UV, 5 D, 7 S, 8 S

## TNY263P
designator *  value TNY263P  Reference: U
TinySwitch-II Family, 4.7W Output Power, DIP-8B; ki_keywords: Enhanced, Energy Efficient, Low Power Off-line Switcher; ki_fp_filters: PowerIntegrations?PDIP?8B*; Footprint: Package_DIP:PowerIntegrations_PDIP-8B; Datasheet: http://www.powerint.com/sites/default/files/product-docs/tny263_268.pdf; Description_: TinySwitch-II Family, 4.7W Output Power, DIP-8B
pins: 1 BP, 2 S, 3 S, 4 EN/UV, 5 D, 7 S, 8 S

## TNY264G
designator *  value TNY264G  Reference: U
TinySwitch-II Family, 6W Output Power, SMD-8B; ki_keywords: Enhanced, Energy Efficient, Low Power Off-line Switcher; ki_fp_filters: PowerIntegrations?SMD?8B*; Footprint: Package_DIP:PowerIntegrations_SMD-8B; Datasheet: http://www.powerint.com/sites/default/files/product-docs/tny263_268.pdf; Description_: TinySwitch-II Family, 6W Output Power, SMD-8B
pins: 1 BP, 2 S, 3 S, 4 EN/UV, 5 D, 7 S, 8 S

## TNY264P
designator *  value TNY264P  Reference: U
TinySwitch-II Family, 6W Output Power, DIP-8B; ki_keywords: Enhanced, Energy Efficient, Low Power Off-line Switcher; ki_fp_filters: PowerIntegrations?PDIP?8B*; Footprint: Package_DIP:PowerIntegrations_PDIP-8B; Datasheet: http://www.powerint.com/sites/default/files/product-docs/tny263_268.pdf; Description_: TinySwitch-II Family, 6W Output Power, DIP-8B
pins: 1 BP, 2 S, 3 S, 4 EN/UV, 5 D, 7 S, 8 S

## TNY265G
designator *  value TNY265G  Reference: U
TinySwitch-II Family, 7.5W Output Power, SMD-8B; ki_keywords: Enhanced, Energy Efficient, Low Power Off-line Switcher; ki_fp_filters: PowerIntegrations?SMD?8B*; Footprint: Package_DIP:PowerIntegrations_SMD-8B; Datasheet: http://www.powerint.com/sites/default/files/product-docs/tny263_268.pdf; Description_: TinySwitch-II Family, 7.5W Output Power, SMD-8B
pins: 1 BP, 2 S, 3 S, 4 EN/UV, 5 D, 7 S, 8 S

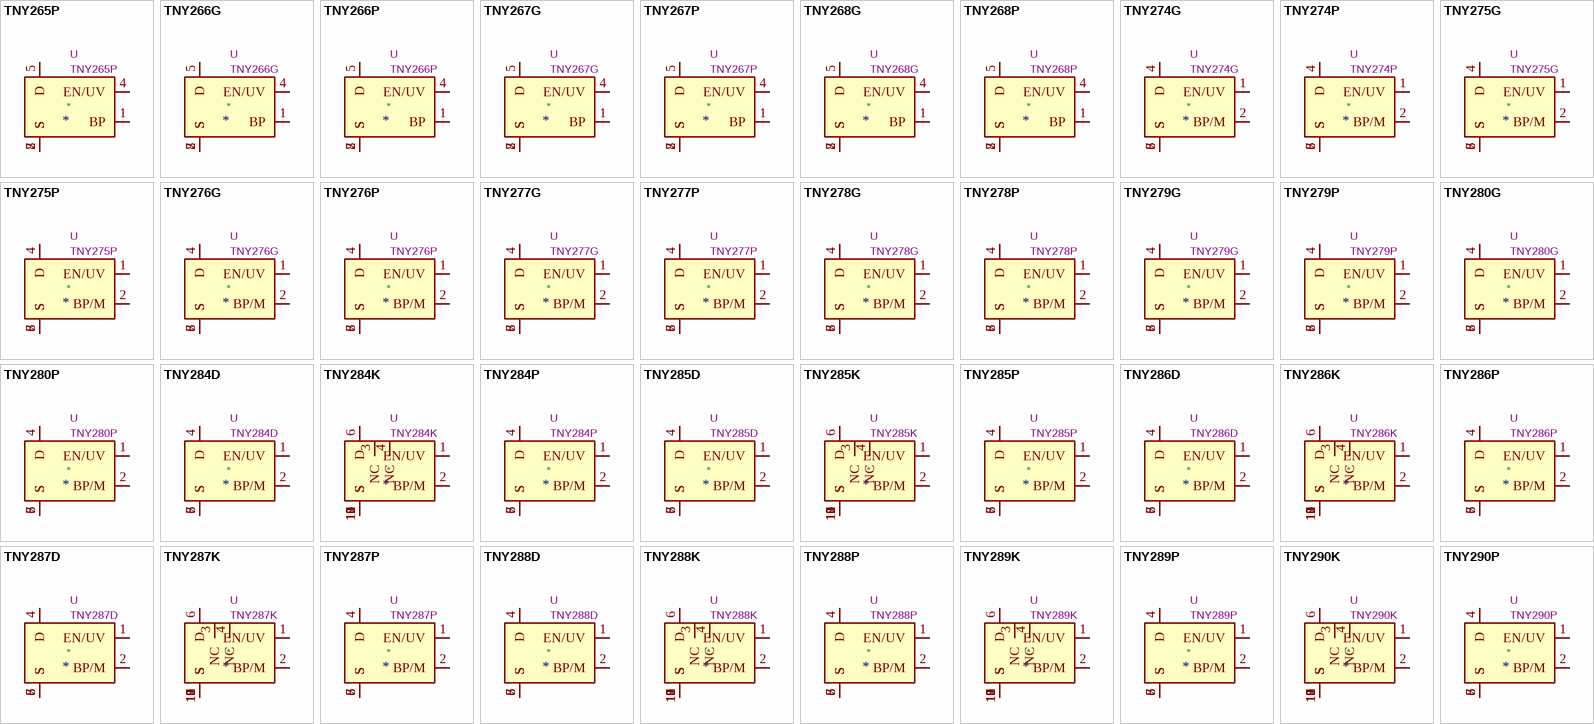
[diagram p23: symbols TNY265P to TNY290P]

## TNY265P
designator *  value TNY265P  Reference: U
TinySwitch-II Family, 7.5W Output Power, DIP-8B; ki_keywords: Enhanced, Energy Efficient, Low Power Off-line Switcher; ki_fp_filters: PowerIntegrations?PDIP?8B*; Footprint: Package_DIP:PowerIntegrations_PDIP-8B; Datasheet: http://www.powerint.com/sites/default/files/product-docs/tny263_268.pdf; Description_: TinySwitch-II Family, 7.5W Output Power, DIP-8B
pins: 1 BP, 2 S, 3 S, 4 EN/UV, 5 D, 7 S, 8 S

## TNY266G
designator *  value TNY266G  Reference: U
TinySwitch-II Family, 9.5W Output Power, SMD-8B; ki_keywords: Enhanced, Energy Efficient, Low Power Off-line Switcher; ki_fp_filters: PowerIntegrations?SMD?8B*; Footprint: Package_DIP:PowerIntegrations_SMD-8B; Datasheet: http://www.powerint.com/sites/default/files/product-docs/tny263_268.pdf; Description_: TinySwitch-II Family, 9.5W Output Power, SMD-8B
pins: 1 BP, 2 S, 3 S, 4 EN/UV, 5 D, 7 S, 8 S

## TNY266P
designator *  value TNY266P  Reference: U
TinySwitch-II Family, 9.5W Output Power, DIP-8B; ki_keywords: Enhanced, Energy Efficient, Low Power Off-line Switcher; ki_fp_filters: PowerIntegrations?PDIP?8B*; Footprint: Package_DIP:PowerIntegrations_PDIP-8B; Datasheet: http://www.powerint.com/sites/default/files/product-docs/tny263_268.pdf; Description_: TinySwitch-II Family, 9.5W Output Power, DIP-8B
pins: 1 BP, 2 S, 3 S, 4 EN/UV, 5 D, 7 S, 8 S

## TNY267G
designator *  value TNY267G  Reference: U
TinySwitch-II Family, 12W Output Power, SMD-8B; ki_keywords: Enhanced, Energy Efficient, Low Power Off-line Switcher; ki_fp_filters: PowerIntegrations?SMD?8B*; Footprint: Package_DIP:PowerIntegrations_SMD-8B; Datasheet: http://www.powerint.com/sites/default/files/product-docs/tny263_268.pdf; Description_: TinySwitch-II Family, 12W Output Power, SMD-8B
pins: 1 BP, 2 S, 3 S, 4 EN/UV, 5 D, 7 S, 8 S

## TNY267P
designator *  value TNY267P  Reference: U
TinySwitch-II Family, 12W Output Power, DIP-8B; ki_keywords: Enhanced, Energy Efficient, Low Power Off-line Switcher; ki_fp_filters: PowerIntegrations?PDIP?8B*; Footprint: Package_DIP:PowerIntegrations_PDIP-8B; Datasheet: http://www.powerint.com/sites/default/files/product-docs/tny263_268.pdf; Description_: TinySwitch-II Family, 12W Output Power, DIP-8B
pins: 1 BP, 2 S, 3 S, 4 EN/UV, 5 D, 7 S, 8 S

## TNY268G
designator *  value TNY268G  Reference: U
TinySwitch-II Family, 15W Output Power, SMD-8B; ki_keywords: Enhanced, Energy Efficient, Low Power Off-line Switcher; ki_fp_filters: PowerIntegrations?SMD?8B*; Footprint: Package_DIP:PowerIntegrations_SMD-8B; Datasheet: http://www.powerint.com/sites/default/files/product-docs/tny263_268.pdf; Description_: TinySwitch-II Family, 15W Output Power, SMD-8B
pins: 1 BP, 2 S, 3 S, 4 EN/UV, 5 D, 7 S, 8 S

## TNY268P
designator *  value TNY268P  Reference: U
TinySwitch-II Family, 15W Output Power, DIP-8B; ki_keywords: Enhanced, Energy Efficient, Low Power Off-line Switcher; ki_fp_filters: PowerIntegrations?PDIP?8B*; Footprint: Package_DIP:PowerIntegrations_PDIP-8B; Datasheet: http://www.powerint.com/sites/default/files/product-docs/tny263_268.pdf; Description_: TinySwitch-II Family, 15W Output Power, DIP-8B
pins: 1 BP, 2 S, 3 S, 4 EN/UV, 5 D, 7 S, 8 S

## TNY274G
designator *  value TNY274G  Reference: U
TinySwitch-III Family, 8.5W Output Power, SMD-8C; ki_keywords: Energy-Efficient, Off-Line Switcher With Enhanced Flexibility and Extended Power Range; ki_fp_filters: PowerIntegrations?SMD?8C*; Footprint: Package_DIP:PowerIntegrations_SMD-8C; Datasheet: http://www.powerint.com/sites/default/files/product-docs/tny274-280.pdf; Description_: TinySwitch-III Family, 8.5W Output Power, SMD-8C
pins: 1 EN/UV, 2 BP/M, 4 D, 5 S, 6 S, 7 S, 8 S

## TNY274P
designator *  value TNY274P  Reference: U
TinySwitch-III Family, 8.5W Output Power, DIP-8C; ki_keywords: Energy-Efficient, Off-Line Switcher With Enhanced Flexibility and Extended Power Range; ki_fp_filters: PowerIntegrations?PDIP?8C*; Footprint: Package_DIP:PowerIntegrations_PDIP-8C; Datasheet: http://www.powerint.com/sites/default/files/product-docs/tny274-280.pdf; Description_: TinySwitch-III Family, 8.5W Output Power, DIP-8C
pins: 1 EN/UV, 2 BP/M, 4 D, 5 S, 6 S, 7 S, 8 S

## TNY275G
designator *  value TNY275G  Reference: U
TinySwitch-III Family, 11.5W Output Power, SMD-8C; ki_keywords: Energy-Efficient, Off-Line Switcher With Enhanced Flexibility and Extended Power Range; ki_fp_filters: PowerIntegrations?SMD?8C*; Footprint: Package_DIP:PowerIntegrations_SMD-8C; Datasheet: http://www.powerint.com/sites/default/files/product-docs/tny274-280.pdf; Description_: TinySwitch-III Family, 11.5W Output Power, SMD-8C
pins: 1 EN/UV, 2 BP/M, 4 D, 5 S, 6 S, 7 S, 8 S

## TNY275P
designator *  value TNY275P  Reference: U
TinySwitch-III Family, 11.5W Output Power, DIP-8C; ki_keywords: Energy-Efficient, Off-Line Switcher With Enhanced Flexibility and Extended Power Range; ki_fp_filters: PowerIntegrations?PDIP?8C*; Footprint: Package_DIP:PowerIntegrations_PDIP-8C; Datasheet: http://www.powerint.com/sites/default/files/product-docs/tny274-280.pdf; Description_: TinySwitch-III Family, 11.5W Output Power, DIP-8C
pins: 1 EN/UV, 2 BP/M, 4 D, 5 S, 6 S, 7 S, 8 S

## TNY276G
designator *  value TNY276G  Reference: U
TinySwitch-III Family, 15W Output Power, SMD-8C; ki_keywords: Energy-Efficient, Off-Line Switcher With Enhanced Flexibility and Extended Power Range; ki_fp_filters: PowerIntegrations?SMD?8C*; Footprint: Package_DIP:PowerIntegrations_SMD-8C; Datasheet: http://www.powerint.com/sites/default/files/product-docs/tny274-280.pdf; Description_: TinySwitch-III Family, 15W Output Power, SMD-8C
pins: 1 EN/UV, 2 BP/M, 4 D, 5 S, 6 S, 7 S, 8 S

## TNY276P
designator *  value TNY276P  Reference: U
TinySwitch-III Family, 15W Output Power, DIP-8C; ki_keywords: Energy-Efficient, Off-Line Switcher With Enhanced Flexibility and Extended Power Range; ki_fp_filters: PowerIntegrations?PDIP?8C*; Footprint: Package_DIP:PowerIntegrations_PDIP-8C; Datasheet: http://www.powerint.com/sites/default/files/product-docs/tny274-280.pdf; Description_: TinySwitch-III Family, 15W Output Power, DIP-8C
pins: 1 EN/UV, 2 BP/M, 4 D, 5 S, 6 S, 7 S, 8 S

## TNY277G
designator *  value TNY277G  Reference: U
TinySwitch-III Family, 18W Output Power, SMD-8C; ki_keywords: Energy-Efficient, Off-Line Switcher With Enhanced Flexibility and Extended Power Range; ki_fp_filters: PowerIntegrations?SMD?8C*; Footprint: Package_DIP:PowerIntegrations_SMD-8C; Datasheet: http://www.powerint.com/sites/default/files/product-docs/tny274-280.pdf; Description_: TinySwitch-III Family, 18W Output Power, SMD-8C
pins: 1 EN/UV, 2 BP/M, 4 D, 5 S, 6 S, 7 S, 8 S

## TNY277P
designator *  value TNY277P  Reference: U
TinySwitch-III Family, 18W Output Power, DIP-8C; ki_keywords: Energy-Efficient, Off-Line Switcher With Enhanced Flexibility and Extended Power Range; ki_fp_filters: PowerIntegrations?PDIP?8C*; Footprint: Package_DIP:PowerIntegrations_PDIP-8C; Datasheet: http://www.powerint.com/sites/default/files/product-docs/tny274-280.pdf; Description_: TinySwitch-III Family, 18W Output Power, DIP-8C
pins: 1 EN/UV, 2 BP/M, 4 D, 5 S, 6 S, 7 S, 8 S

## TNY278G
designator *  value TNY278G  Reference: U
TinySwitch-III Family, 21.5W Output Power, SMD-8C; ki_keywords: Energy-Efficient, Off-Line Switcher With Enhanced Flexibility and Extended Power Range; ki_fp_filters: PowerIntegrations?SMD?8C*; Footprint: Package_DIP:PowerIntegrations_SMD-8C; Datasheet: http://www.powerint.com/sites/default/files/product-docs/tny274-280.pdf; Description_: TinySwitch-III Family, 21.5W Output Power, SMD-8C
pins: 1 EN/UV, 2 BP/M, 4 D, 5 S, 6 S, 7 S, 8 S

## TNY278P
designator *  value TNY278P  Reference: U
TinySwitch-III Family, 21.5W Output Power, DIP-8C; ki_keywords: Energy-Efficient, Off-Line Switcher With Enhanced Flexibility and Extended Power Range; ki_fp_filters: PowerIntegrations?PDIP?8C*; Footprint: Package_DIP:PowerIntegrations_PDIP-8C; Datasheet: http://www.powerint.com/sites/default/files/product-docs/tny274-280.pdf; Description_: TinySwitch-III Family, 21.5W Output Power, DIP-8C
pins: 1 EN/UV, 2 BP/M, 4 D, 5 S, 6 S, 7 S, 8 S

## TNY279G
designator *  value TNY279G  Reference: U
TinySwitch-III Family, 25W Output Power, SMD-8C; ki_keywords: Energy-Efficient, Off-Line Switcher With Enhanced Flexibility and Extended Power Range; ki_fp_filters: PowerIntegrations?SMD?8C*; Footprint: Package_DIP:PowerIntegrations_SMD-8C; Datasheet: http://www.powerint.com/sites/default/files/product-docs/tny274-280.pdf; Description_: TinySwitch-III Family, 25W Output Power, SMD-8C
pins: 1 EN/UV, 2 BP/M, 4 D, 5 S, 6 S, 7 S, 8 S

## TNY279P
designator *  value TNY279P  Reference: U
TinySwitch-III Family, 25W Output Power, DIP-8C; ki_keywords: Energy-Efficient, Off-Line Switcher With Enhanced Flexibility and Extended Power Range; ki_fp_filters: PowerIntegrations?PDIP?8C*; Footprint: Package_DIP:PowerIntegrations_PDIP-8C; Datasheet: http://www.powerint.com/sites/default/files/product-docs/tny274-280.pdf; Description_: TinySwitch-III Family, 25W Output Power, DIP-8C
pins: 1 EN/UV, 2 BP/M, 4 D, 5 S, 6 S, 7 S, 8 S

## TNY280G
designator *  value TNY280G  Reference: U
TinySwitch-III Family, 28.5W Output Power, SMD-8C; ki_keywords: Energy-Efficient, Off-Line Switcher With Enhanced Flexibility and Extended Power Range; ki_fp_filters: PowerIntegrations?SMD?8C*; Footprint: Package_DIP:PowerIntegrations_SMD-8C; Datasheet: http://www.powerint.com/sites/default/files/product-docs/tny274-280.pdf; Description_: TinySwitch-III Family, 28.5W Output Power, SMD-8C
pins: 1 EN/UV, 2 BP/M, 4 D, 5 S, 6 S, 7 S, 8 S

## TNY280P
designator *  value TNY280P  Reference: U
TinySwitch-III Family, 28.5W Output Power, DIP-8C; ki_keywords: Energy-Efficient, Off-Line Switcher With Enhanced Flexibility and Extended Power Range; ki_fp_filters: PowerIntegrations?PDIP?8C*; Footprint: Package_DIP:PowerIntegrations_PDIP-8C; Datasheet: http://www.powerint.com/sites/default/files/product-docs/tny274-280.pdf; Description_: TinySwitch-III Family, 28.5W Output Power, DIP-8C
pins: 1 EN/UV, 2 BP/M, 4 D, 5 S, 6 S, 7 S, 8 S

## TNY284D
designator *  value TNY284D  Reference: U
TinySwitch-4 Family, 8.5W Output Power, SO-8C; ki_keywords: Energy-Efficient, Off-Line Switcher With Line Compensated Overload Power; ki_fp_filters: PowerIntegrations?SO?8C*; Footprint: Package_SO:PowerIntegrations_SO-8C; Datasheet: https://ac-dc.power.com/sites/default/files/product-docs/tinyswitch-4_family_datasheet.pdf; Description_: TinySwitch-4 Family, 8.5W Output Power, SO-8C
pins: 1 EN/UV, 2 BP/M, 4 D, 5 S, 6 S, 7 S, 8 S

## TNY284K
designator *  value TNY284K  Reference: U
TinySwitch-4 Family, 8.5W Output Power, eSOP-12B; ki_keywords: Energy-Efficient, Off-Line Switcher With Line Compensated Overload Power; ki_fp_filters: PowerIntegrations?eSOP?12B*; Footprint: Package_SO:PowerIntegrations_eSOP-12B; Datasheet: https://ac-dc.power.com/sites/default/files/product-docs/tinyswitch-4_family_datasheet.pdf; Description_: TinySwitch-4 Family, 8.5W Output Power, eSOP-12B
pins: 1 EN/UV, 2 BP/M, 3 NC, 4 NC, 6 D, 7 S, 8 S, 9 S, 10 S, 11 S, 12 S, 13 S

## TNY284P
designator *  value TNY284P  Reference: U
TinySwitch-4 Family, 8.5W Output Power, PDIP-8C; ki_keywords: Energy-Efficient, Off-Line Switcher With Line Compensated Overload Power; ki_fp_filters: PowerIntegrations?PDIP?8C*; Footprint: Package_DIP:PowerIntegrations_PDIP-8C; Datasheet: https://ac-dc.power.com/sites/default/files/product-docs/tinyswitch-4_family_datasheet.pdf; Description_: TinySwitch-4 Family, 8.5W Output Power, PDIP-8C
pins: 1 EN/UV, 2 BP/M, 4 D, 5 S, 6 S, 7 S, 8 S

## TNY285D
designator *  value TNY285D  Reference: U
TinySwitch-4 Family, 11.5W Output Power, SO-8C; ki_keywords: Energy-Efficient, Off-Line Switcher With Line Compensated Overload Power; ki_fp_filters: PowerIntegrations?SO?8C*; Footprint: Package_SO:PowerIntegrations_SO-8C; Datasheet: https://ac-dc.power.com/sites/default/files/product-docs/tinyswitch-4_family_datasheet.pdf; Description_: TinySwitch-4 Family, 11.5W Output Power, SO-8C
pins: 1 EN/UV, 2 BP/M, 4 D, 5 S, 6 S, 7 S, 8 S

## TNY285K
designator *  value TNY285K  Reference: U
TinySwitch-4 Family, 11.5W Output Power, eSOP-12B; ki_keywords: Energy-Efficient, Off-Line Switcher With Line Compensated Overload Power; ki_fp_filters: PowerIntegrations?eSOP?12B*; Footprint: Package_SO:PowerIntegrations_eSOP-12B; Datasheet: https://ac-dc.power.com/sites/default/files/product-docs/tinyswitch-4_family_datasheet.pdf; Description_: TinySwitch-4 Family, 11.5W Output Power, eSOP-12B
pins: 1 EN/UV, 2 BP/M, 3 NC, 4 NC, 6 D, 7 S, 8 S, 9 S, 10 S, 11 S, 12 S, 13 S

## TNY285P
designator *  value TNY285P  Reference: U
TinySwitch-4 Family, 11.5W Output Power, PDIP-8C; ki_keywords: Energy-Efficient, Off-Line Switcher With Line Compensated Overload Power; ki_fp_filters: PowerIntegrations?PDIP?8C*; Footprint: Package_DIP:PowerIntegrations_PDIP-8C; Datasheet: https://ac-dc.power.com/sites/default/files/product-docs/tinyswitch-4_family_datasheet.pdf; Description_: TinySwitch-4 Family, 11.5W Output Power, PDIP-8C
pins: 1 EN/UV, 2 BP/M, 4 D, 5 S, 6 S, 7 S, 8 S

## TNY286D
designator *  value TNY286D  Reference: U
TinySwitch-4 Family, 15W Output Power, SO-8C; ki_keywords: Energy-Efficient, Off-Line Switcher With Line Compensated Overload Power; ki_fp_filters: PowerIntegrations?SO?8C*; Footprint: Package_SO:PowerIntegrations_SO-8C; Datasheet: https://ac-dc.power.com/sites/default/files/product-docs/tinyswitch-4_family_datasheet.pdf; Description_: TinySwitch-4 Family, 15W Output Power, SO-8C
pins: 1 EN/UV, 2 BP/M, 4 D, 5 S, 6 S, 7 S, 8 S

## TNY286K
designator *  value TNY286K  Reference: U
TinySwitch-4 Family, 15W Output Power, eSOP-12B; ki_keywords: Energy-Efficient, Off-Line Switcher With Line Compensated Overload Power; ki_fp_filters: PowerIntegrations?eSOP?12B*; Footprint: Package_SO:PowerIntegrations_eSOP-12B; Datasheet: https://ac-dc.power.com/sites/default/files/product-docs/tinyswitch-4_family_datasheet.pdf; Description_: TinySwitch-4 Family, 15W Output Power, eSOP-12B
pins: 1 EN/UV, 2 BP/M, 3 NC, 4 NC, 6 D, 7 S, 8 S, 9 S, 10 S, 11 S, 12 S, 13 S

## TNY286P
designator *  value TNY286P  Reference: U
TinySwitch-4 Family, 15W Output Power, PDIP-8C; ki_keywords: Energy-Efficient, Off-Line Switcher With Line Compensated Overload Power; ki_fp_filters: PowerIntegrations?PDIP?8C*; Footprint: Package_DIP:PowerIntegrations_PDIP-8C; Datasheet: https://ac-dc.power.com/sites/default/files/product-docs/tinyswitch-4_family_datasheet.pdf; Description_: TinySwitch-4 Family, 15W Output Power, PDIP-8C
pins: 1 EN/UV, 2 BP/M, 4 D, 5 S, 6 S, 7 S, 8 S

## TNY287D
designator *  value TNY287D  Reference: U
TinySwitch-4 Family, 18W Output Power, SO-8C; ki_keywords: Energy-Efficient, Off-Line Switcher With Line Compensated Overload Power; ki_fp_filters: PowerIntegrations?SO?8C*; Footprint: Package_SO:PowerIntegrations_SO-8C; Datasheet: https://ac-dc.power.com/sites/default/files/product-docs/tinyswitch-4_family_datasheet.pdf; Description_: TinySwitch-4 Family, 18W Output Power, SO-8C
pins: 1 EN/UV, 2 BP/M, 4 D, 5 S, 6 S, 7 S, 8 S

## TNY287K
designator *  value TNY287K  Reference: U
TinySwitch-4 Family, 18W Output Power, eSOP-12B; ki_keywords: Energy-Efficient, Off-Line Switcher With Line Compensated Overload Power; ki_fp_filters: PowerIntegrations?eSOP?12B*; Footprint: Package_SO:PowerIntegrations_eSOP-12B; Datasheet: https://ac-dc.power.com/sites/default/files/product-docs/tinyswitch-4_family_datasheet.pdf; Description_: TinySwitch-4 Family, 18W Output Power, eSOP-12B
pins: 1 EN/UV, 2 BP/M, 3 NC, 4 NC, 6 D, 7 S, 8 S, 9 S, 10 S, 11 S, 12 S, 13 S